# EAGLE library part IS25LP080D-JULE-TR_IS25LP080D-JULE-TR (library xmos_avb_brd_V4)
NOR Flash 8Mb QSPI, 8-pin USON 2x3mm, RoHS, T&R Source: Datasheet <https://componentsearchengine.com/Datasheets/1/IS25LP080D-JULE-TR.pdf>
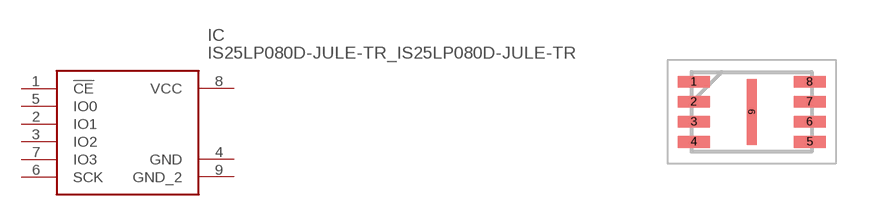
[diagram p5: symbol with the pads of IS25LP080D-JULE-TR_SON50P300X200X55-9N; footprint IS25LP080D-JULE-TR_SON50P300X200X55-9N]

Designator prefix IC

## IS25LP080D-JULE-TR_IS25LP080D-JULE-TR (DESCRIPTION: NOR Flash 8Mb QSPI, 8-pin USON 2x3mm, RoHS, T&R; HEIGHT: 0.55mm; MANUFACTURER_NAME: Integrated Silicon Solution Inc.; MANUFACTURER_PART_NUMBER: IS25LP080D-JULE-TR)  [IS25LP080D-JULE-TR_SON50P300X200X55-9N]
1  !CE  in
2  IO1
3  IO2
4  GND  sup
5  IO0
6  SCK  in
7  IO3
8  VCC  sup
9  GND_2  sup

## Footprint IS25LP080D-JULE-TR_SON50P300X200X55-9N (pad centres in mm)
USON 2x3
smd 0.8 x 0.3: 1 -1.45,0.75; 2 -1.45,0.25; 3 -1.45,-0.25; 4 -1.45,-0.75; 5 1.45,-0.75; 6 1.45,-0.25; 7 1.45,0.25; 8 1.45,0.75
smd 0.25 x 1.65: 9 0,0